# Altium footprint library soldeerstation.PcbLib: 28 footprints (part 2 of 2)
Each footprint in its own frame and in the unit in brackets; x right, y up, seen from the top. Pads: shape width x height; smd on the part's side, far side on the other; paste and mask are expansions set on the pad; w line width, h text height; cw(c..) or ccw(c..) is an arc to the next point about the centre after c.
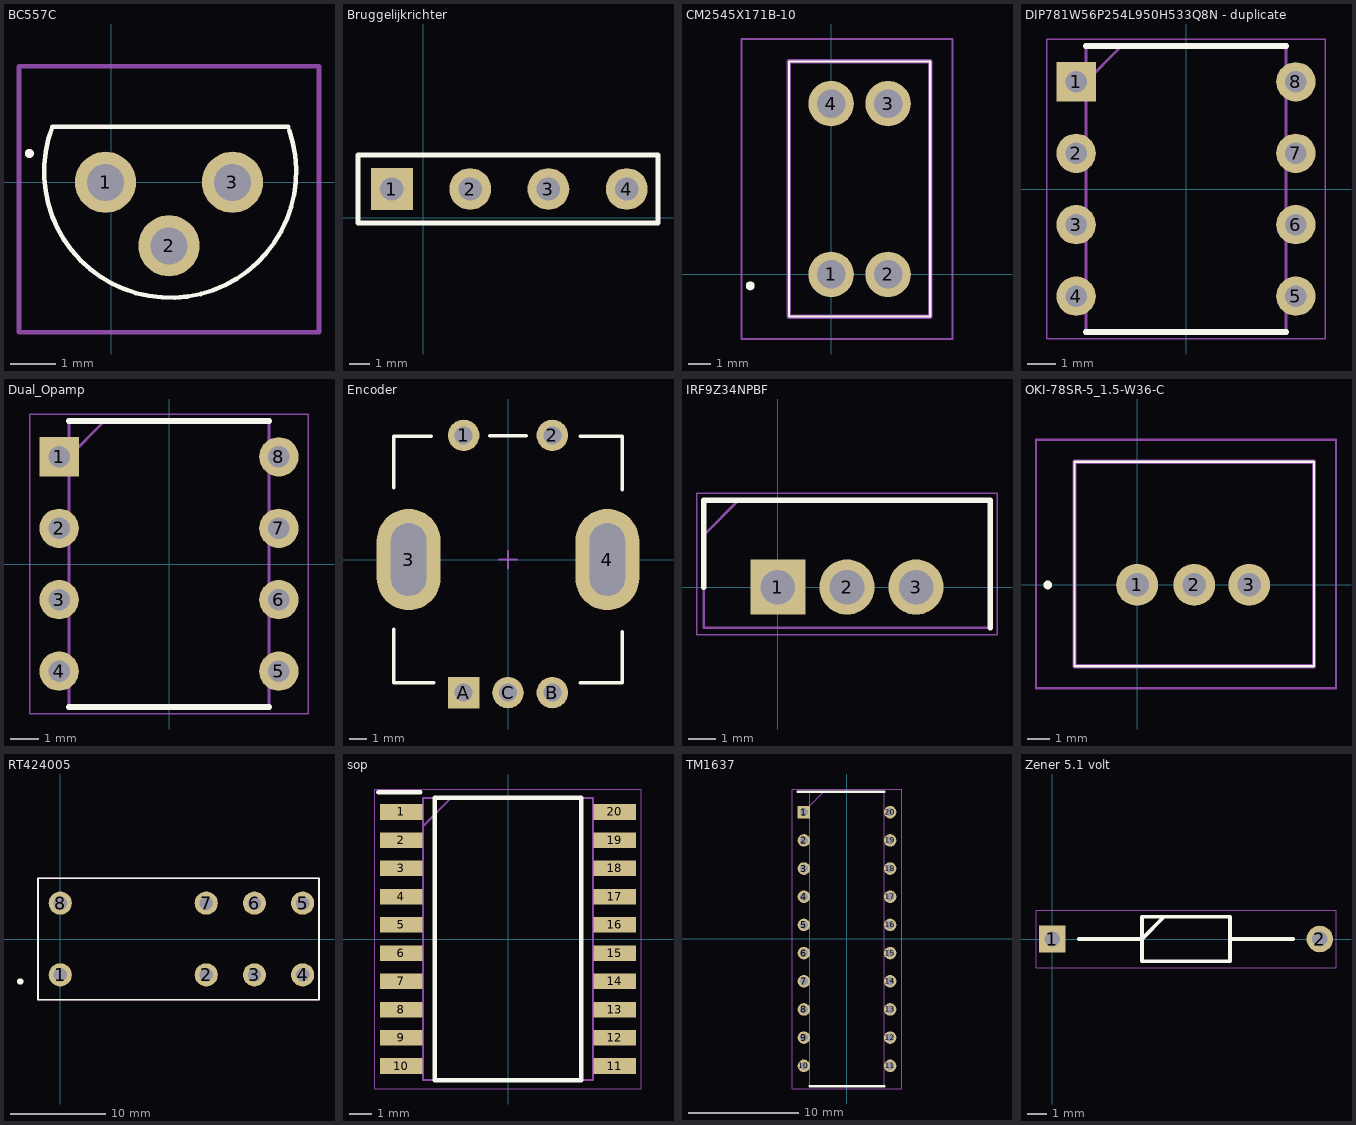
[diagram p1: the footprints below, top view; thin cyan lines are the x and y axes]

## BC557C [mil]
pads (3):
  round 53 hole 32: 1(-5,0) 2(50,-55) 3(105,0)
Top Overlay:
  lines w3.94: 153.43,48.18 -50.97,48.18 ccw(c50.97,9.15) 154.02,45.13 ; -72.87,25 cw(c-70.91,25) -68.94,25 cw(c-70.91,25) -72.87,25
Mechanical 15:
  lines w3.94: -79.92,-129.92 -79.92,100.39 179.92,100.39 179.92,-129.92 -79.92,-129.92

## Bruggelijkrichter [mil] "D6KB6U"
pads (4):
  rect 80x80 hole 45: 1(-60,55)
  round 80 hole 45: 2(90,55) 3(240,55) 4(390,55)
Top Overlay:
  lines w10: -125,-10 450,-10 450,120 -125,120 -125,-10

## CM2545X171B-10 [mil]
pads (4):
  round 80 hole 50: 1(0,0) 2(100,0) 3(100,300) 4(0,300)
Top Overlay:
  lines w3.94: -74.02,-74.02 -74.02,374.02 174.02,374.02 174.02,-74.02 -74.02,-74.02
  lines w7.87: -145.87,-20 ccw(c-141.94,-20) -138,-20 ccw(c-141.94,-20) -145.87,-20
Mechanical 13:
  lines w7.87: -74.02,-74.02 -74.02,374.02 174.02,374.02 174.02,-74.02 -74.02,-74.02
Mechanical 15:
  lines w3.94: -157.48,-113.39 -157.48,413.39 213.39,413.39 213.39,-113.39 -157.48,-113.39
3D body "CM2545X171B-10.stp": height 377.95, standoff -196.85, extent -74.02,-74.02 174.02,374.02

## DIP781W56P254L950H533Q8N - duplicate [mil]
pads (8):
  rect 55x55 hole 30: 1(-153.74,150)
  round 55 hole 30: 2(-153.74,50) 3(-153.74,-50) 4(-153.74,-150) 5(153.74,-150) 6(153.74,-50) 7(153.74,50) 8(153.74,150)
Top Overlay:
  lines w7.87: -140,-200 140,-200 ; -140,200 140,200
Mechanical 15:
  lines w3.94: -140,150 -90,200 ; -140,-200 140,-200 140,200 -140,200 -140,-200
Bottom Assembly:
  lines w1.97: -195.12,-209.84 195.12,-209.84 195.12,209.84 -195.12,209.84 -195.12,-209.84

## Dual_Opamp [mil] "Opamp"
pads (8):
  rect 55x55 hole 30: 1(-153.74,150)
  round 55 hole 30: 2(-153.74,50) 3(-153.74,-50) 4(-153.74,-150) 5(153.74,-150) 6(153.74,-50) 7(153.74,50) 8(153.74,150)
Top Overlay:
  lines w7.87: -140,-200 140,-200 ; -140,200 140,200
Mechanical 13:
  lines w3.94: -140,150 -90,200 ; -140,-200 140,-200 140,200 -140,200 -140,-200
Mechanical 15:
  lines w1.97: -195.12,-209.84 195.12,-209.84 195.12,209.84 -195.12,209.84 -195.12,-209.84

## Encoder [mil]
pads (7):
  round 70 hole 40 paste-39370.1 mask+0: 1(-98.43,275.59) 2(98.43,275.59) B(98.43,-295.28) C(0,-295.28)
  rrect100% 142x225 hole 161.42 slot 78.74 at 0 deg paste-39370.1 mask+0: 3(-220.47,0) 4(220.47,0)
  rect 70x70 hole 40 paste-39370.1 mask+0: A(-98.43,-295.28)
Top Overlay:
  lines w7.87: -253.94,-155 -253.94,-273.62 -165,-273.62 ; -253.94,160 -253.94,273.62 -170,273.62 ; -40,275 40,275 ; 160,-273.62 253.94,-273.62 253.94,-160 ; 160,273.62 253.94,273.62 253.94,155
Top Component Center:
  lines w3.94: -19.68,0 19.68,0 ; 0,-19.68 0,19.68

## IRF9Z34NPBF [mil]
pads (3):
  rect 80x80 hole 50: 1(0,0)
  round 80 hole 50: 2(100,0) 3(200,0)
Top Overlay:
  lines w7.87: -107.48,0 -107.48,125.79 307.48,125.79 307.48,-58.86
Mechanical 13:
  lines w3.94: -107.48,75.79 -57.48,125.79 ; -107.48,-58.86 -107.48,125.79 307.48,125.79 307.48,-58.86 -107.48,-58.86
Mechanical 15:
  lines w1.97: -117.32,-68.7 -117.32,135.63 317.32,135.63 317.32,-68.7 -117.32,-68.7
3D body "IRF9Z34NPBF.stp": height 741.93, standoff -689.37, extent -105.02,-58.86 305.02,125.79

## OKI-78SR-5_1.5-W36-C [mil]
pads (3):
  round 75 hole 42: 1(0,0) 2(102.36,0) 3(200.79,0)
Top Overlay:
  lines w3.94: -112.2,-145.67 -112.2,220.47 316.93,220.47 316.93,-145.67 -112.2,-145.67
  lines w11.81: -161.97,0 ccw(c-160,0) -158.03,0 ccw(c-160,0) -161.97,0
Mechanical 13:
  lines w7.87: -112.2,-145.67 -112.2,220.47 316.93,220.47 316.93,-145.67 -112.2,-145.67
Mechanical 15:
  lines w3.94: -181.1,-185.04 356.3,-185.04 356.3,259.84 -181.1,259.84 -181.1,-185.04
3D body "OKI-78SR-5_1.5-W36-C.stp": height 653.54, standoff -196.85, extent -112.2,-145.67 316.93,220.47

## RT424005 [mil]
pads (8):
  round 95 hole 55: 1(0,-147.64) 2(600.79,-147.64) 3(799.21,-147.64) 4(997.64,-147.64) 5(997.64,147.64) 6(799.21,147.64) 7(600.79,147.64) 8(0,147.64)
Top Overlay:
  circle w15.75: c-165,-175 r4.96
  lines w7.87: -92.52,-250 -92.52,250 1065,250 1065,-250 -92.52,-250
Mechanical 13:
  lines w7.87: -92.52,-250 -92.52,250 1065,250 1065,-250 -92.52,-250
3D body "RT424005.stp": height 624.41, standoff -115.75, extent -87.01,-250 1054.72,250

## sop [mm]
pads (20):
  rect 1.9x0.7 smd: 1(-4.8,5.715) 2(-4.8,4.445) 3(-4.8,3.175) 4(-4.8,1.905) 5(-4.8,0.635) 6(-4.8,-0.635) 7(-4.8,-1.905) 8(-4.8,-3.175) 9(-4.8,-4.445) 10(-4.8,-5.715) 11(4.8,-5.715) 12(4.8,-4.445) 13(4.8,-3.175) 14(4.8,-1.905) 15(4.8,-0.635) 16(4.8,0.635) 17(4.8,1.905) 18(4.8,3.175) 19(4.8,4.445) 20(4.8,5.715)
Top Overlay:
  lines w0.2: -5.837,6.604 -3.937,6.604 ; -3.302,-6.35 -3.302,-3.175 -3.302,3.175 -3.302,6.35 3.302,6.35 3.302,3.175 3.302,-3.175 3.302,-6.35 -3.302,-6.35
Mechanical 13:
  lines w0.1: -3.825,5.08 -2.555,6.35 ; -3.825,-6.35 -3.825,6.35 3.825,6.35 3.825,-6.35 -3.825,-6.35
Mechanical 15:
  lines w0.05: -6,-6.75 -6,6.75 6,6.75 6,-6.75 -6,-6.75
3D body "TM1637__SOP_.stp": height 2.8, standoff 0, extent -5.225,-6.35 5.225,6.35

## TM1637 [mm]
pads (20):
  rect 1.13x1.13 hole 0.73: 1(-3.892,11.43)
  round 1.13 hole 0.73: 2(-3.892,8.89) 3(-3.892,6.35) 4(-3.892,3.81) 5(-3.892,1.27) 6(-3.892,-1.27) 7(-3.892,-3.81) 8(-3.892,-6.35) 9(-3.892,-8.89) 10(-3.892,-11.43) 11(3.892,-11.43) 12(3.892,-8.89) 13(3.892,-6.35) 14(3.892,-3.81) 15(3.892,-1.27) 16(3.892,1.27) 17(3.892,3.81) 18(3.892,6.35) 19(3.892,8.89) 20(3.892,11.43)
Top Overlay:
  lines w0.2: -4.458,13.27 3.375,13.27 ; -3.375,-13.27 3.375,-13.27
Mechanical 13:
  lines w0.1: -3.375,12 -2.105,13.27 ; -3.375,-13.27 -3.375,13.27 3.375,13.27 3.375,-13.27 -3.375,-13.27
Mechanical 15:
  lines w0.05: -4.94,-13.52 -4.94,13.52 4.94,13.52 4.94,-13.52 -4.94,-13.52
3D body "TM1637.stp": height 4.31, standoff -3.5, extent -4.025,-13.06 4.025,13.06

## Zener 5.1 volt [mil]
pads (2):
  rect 55x55 hole 32: 1(0,0)
  round 55 hole 32: 2(555.12,0)
Top Overlay:
  lines w7.87: 55,0 186.02,0 232.28,46.26 ; 369.09,0 500,0 ; 186.02,-46.26 369.09,-46.26 369.09,46.26 186.02,46.26 186.02,-46.26
Mechanical 15:
  lines w3.94: 186.02,0 232.28,46.26 ; 186.02,-46.26 369.09,-46.26 369.09,46.26 186.02,46.26 186.02,-46.26
Bottom Assembly:
  lines w1.97: -33.46,-60.04 -33.46,60.04 588.58,60.04 588.58,-60.04 -33.46,-60.04